# Altium schematic symbol library ESD5V0D5-TP.SchLib: 1 symbol
Pins are listed as number, name and electrical type; pins without a type are passive.

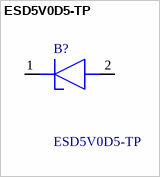
[diagram p0: symbol ESD5V0D5-TP]

## ESD5V0D5-TP
designator B?
18.6V Clamp 11.6A (8/20s) Ipp Tvs Diode Surface Mount SOD-523; Manufacturer_Name: MCC; Geometry.Height: 0.65mm; Manufacturer_Part_Number: ESD5V0D5-TP; Mouser Part Number: 833-ESD5V0D5-TP; Mouser Price/Stock: https://www.mouser.co.uk/ProductDetail/Micro-Commercial-Components-MCC/ESD5V0D5-TP?qs=6W4OQKoqJ0uiyYGOynr3QQ%3D%3D; Arrow Part Number: ESD5V0D5-TP; Arrow Price/Stock: https://www.arrow.com/en/products/esd5v0d5-tp/micro-commercial-components?utm_currency=USD&region=nac; Datasheet Link: https://mccsemi.com/pdf/Products/ESD3V3D5~ESD12VD5(SOD-523).pdf
footprint ESD5V0D5TP
pins: 1 K, 2 A